# Altium footprint library WE-PD3.PcbLib: 4 footprints
Each footprint in its own frame and in the unit in brackets; x right, y up, seen from the top. Pads: shape width x height; smd on the part's side, far side on the other; paste and mask are expansions set on the pad; w line width, h text height; cw(c..) or ccw(c..) is an arc to the next point about the centre after c.
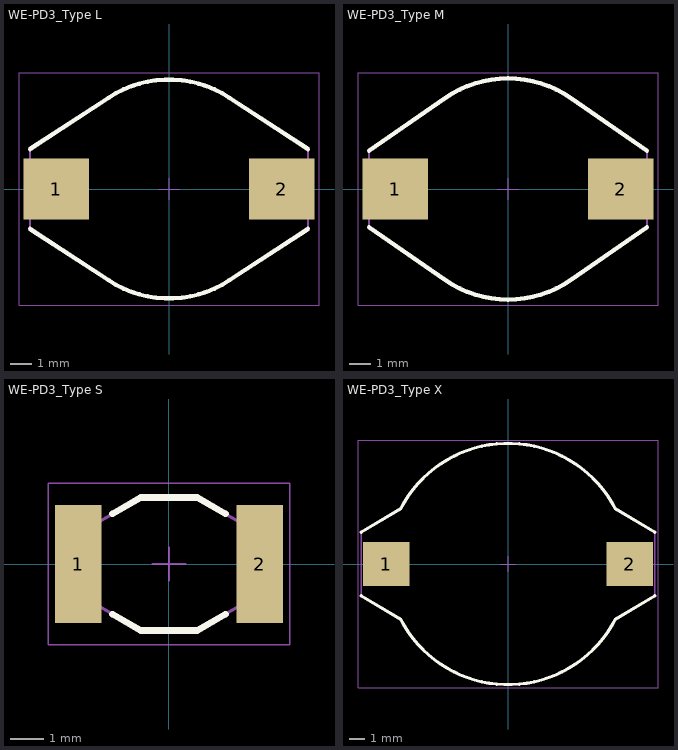
[diagram p0: the footprints below, top view; thin cyan lines are the x and y axes]

## WE-PD3_Type L [mm] "SMD Shielded Power Inductor, body 12.7x10mm"
height 5.2
pads (2):
  rect 3x2.8 smd: 1(-5.15,0) 2(5.15,0)
Top Overlay:
  lines w0.2: -6.35,-1.822 -2.759,-4.168 ; -6.35,1.822 -2.759,4.168 ; -2.759,-4.17 ccw(c0,0) 2.759,-4.17 ; -2.759,4.17 cw(c0,0) 2.759,4.17 ; 2.759,-4.168 6.35,-1.822 ; 2.759,4.168 6.35,1.822
Top Designator:
  text ".Designator" at -7.498,-0.5 h1.5
Top Component Outline:
  lines w0.1: -2.759,-4.17 ccw(c0,0) 2.759,-4.17 ; -2.759,4.17 cw(c0,0) 2.759,4.17 ; -2.759,-4.168 -6.35,-1.822 -6.35,1.822 -2.759,4.168 ; 2.759,-4.168 6.35,-1.822 6.35,1.822 2.759,4.168
Top 3D Body:
  lines w0.1: -2.759,-4.17 ccw(c0,0) 2.759,-4.17 ; -2.759,4.17 cw(c0,0) 2.759,4.17 ; -2.759,-4.168 -6.35,-1.822 -6.35,1.822 -2.759,4.168 ; 2.759,-4.168 6.35,-1.822 6.35,1.822 2.759,4.168
Top Courtyard:
  lines w0.05: -0.5,0 0.5,0 ; 0,-0.5 0,0.5 ; -6.85,-5.3 6.85,-5.3 6.85,5.3 -6.85,5.3 -6.85,-5.3
3D body "L_IndPD3_74454xx.stp": height 4.9, standoff 0, extent -6.375,-5 6.375,5

## WE-PD3_Type M [mm] "SMD Shielded Power Inductor, body 10.1x12.7mm"
height 3
pads (2):
  rect 3x2.8 smd: 1(-5.15,0) 2(5.15,0)
Top Overlay:
  lines w0.2: -6.35,-1.752 -2.87,-4.157 ; -6.35,1.752 -2.87,4.157 ; -2.869,-4.156 ccw(c0,0) 2.869,-4.156 ; -2.869,4.156 cw(c0,0) 2.869,4.156 ; 2.87,-4.157 6.35,-1.752 ; 2.87,4.157 6.35,1.752
Top Designator:
  text ".Designator" at -7.498,-0.5 h1.5
Top Component Outline:
  lines w0.1: -2.87,-4.157 -6.35,-1.752 -6.35,1.752 -2.87,4.157 ; -2.869,-4.156 ccw(c0,0) 2.869,-4.156 ; -2.869,4.156 cw(c0,0) 2.869,4.156 ; 2.87,-4.157 6.35,-1.752 6.35,1.752 2.87,4.157
Top 3D Body:
  lines w0.1: -2.87,-4.157 -6.35,-1.752 -6.35,1.752 -2.87,4.157 ; -2.869,-4.156 ccw(c0,0) 2.869,-4.156 ; -2.869,4.156 cw(c0,0) 2.869,4.156 ; 2.87,-4.157 6.35,-1.752 6.35,1.752 2.87,4.157
Top Courtyard:
  lines w0.05: -0.5,0 0.5,0 ; 0,-0.5 0,0.5 ; -6.85,-5.3 -6.85,5.3 6.85,5.3 6.85,-5.3 -6.85,-5.3
3D body "M_IndPD3_74453xx.stp": height 2.72, standoff 0.02, extent -6.35,-5.05 6.35,5.05

## WE-PD3_Type S [mm] "SMD Shielded Power Inductor, body 6.6x4.45mm"
height 2.92
pads (2):
  rect 1.4x3.56 smd: 1(-2.73,0) 2(2.73,0)
Top Overlay:
  lines w0.2: -1.697,-1.508 -0.85,-2 0.85,-2 1.697,-1.508 ; -1.697,1.508 -0.85,2 0.85,2 1.697,1.508
Top Designator:
  text ".Designator" at -7.498,-0.5 h1.5
Top Component Outline:
  lines w0.1: -3.175,-0.65 -3.175,0.65 -0.85,2 0.85,2 3.175,0.65 3.175,-0.65 0.85,-2 -0.85,-2 -3.175,-0.65
Top 3D Body:
  lines w0.1: -3.175,-0.65 -3.175,0.65 -0.85,2 0.85,2 3.175,0.65 3.175,-0.65 0.85,-2 -0.85,-2 -3.175,-0.65
Top Courtyard:
  lines w0.05: -0.5,0 0.5,0 ; 0,-0.5 0,0.5 ; -3.63,-2.425 3.63,-2.425 3.63,2.425 -3.63,2.425 -3.63,-2.425
3D body "IndPD3_74451xxx.stp": height 3.1, standoff 0.02, extent -3.175,-2 3.175,2

## WE-PD3_Type X [mm] "SMD Shielded Power Inductor, body 18.54x15.24mm"
height 7.62
pads (2):
  rect 2.92x2.79 smd: 1(-7.685,0) 2(7.685,0)
Top Overlay:
  lines w0.2: -9.27,-2 -6.766,-3.502 ; -9.27,2 -6.766,3.502 ; -6.767,-3.503 ccw(c0,0) 6.767,-3.503 ; -6.767,3.503 cw(c0,0) 6.767,3.503 ; 6.766,-3.502 9.27,-2 ; 6.766,3.502 9.27,2
Top Designator:
  text ".Designator" at -7.498,-0.5 h1.5
Top Component Outline:
  lines w0.1: -9.27,-2.002 -9.27,2 -6.766,3.502 ; -9.27,-2 -6.766,-3.502 ; -6.767,-3.503 ccw(c0,0) 6.767,-3.503 ; -6.767,3.503 cw(c0,0) 6.767,3.503 ; 6.766,-3.502 9.27,-2 9.27,2 6.766,3.502
Top 3D Body:
  lines w0.1: -9.27,-2.002 -9.27,2 -6.766,3.502 ; -9.27,-2 -6.766,-3.502 ; -6.767,-3.503 ccw(c0,0) 6.767,-3.503 ; -6.767,3.503 cw(c0,0) 6.767,3.503 ; 6.766,-3.502 9.27,-2 9.27,2 6.766,3.502
Top Courtyard:
  lines w0.05: -0.5,0 0.5,0 ; 0,-0.5 0,0.5 ; -9.47,-7.82 -9.47,7.82 9.47,7.82 9.47,-7.82 -9.47,-7.82
3D body "X_IndPD3_74459xxx.stp": height 7.66, standoff 0.04, extent -9.27,-7.62 9.27,7.62